# Altium footprint library smartcar_lib.PcbLib: 126 footprints (part 4 of 8)
Each footprint in its own frame and in the unit in brackets; x right, y up, seen from the top. Pads: shape width x height; smd on the part's side, far side on the other; paste and mask are expansions set on the pad; w line width, h text height; cw(c..) or ccw(c..) is an arc to the next point about the centre after c.
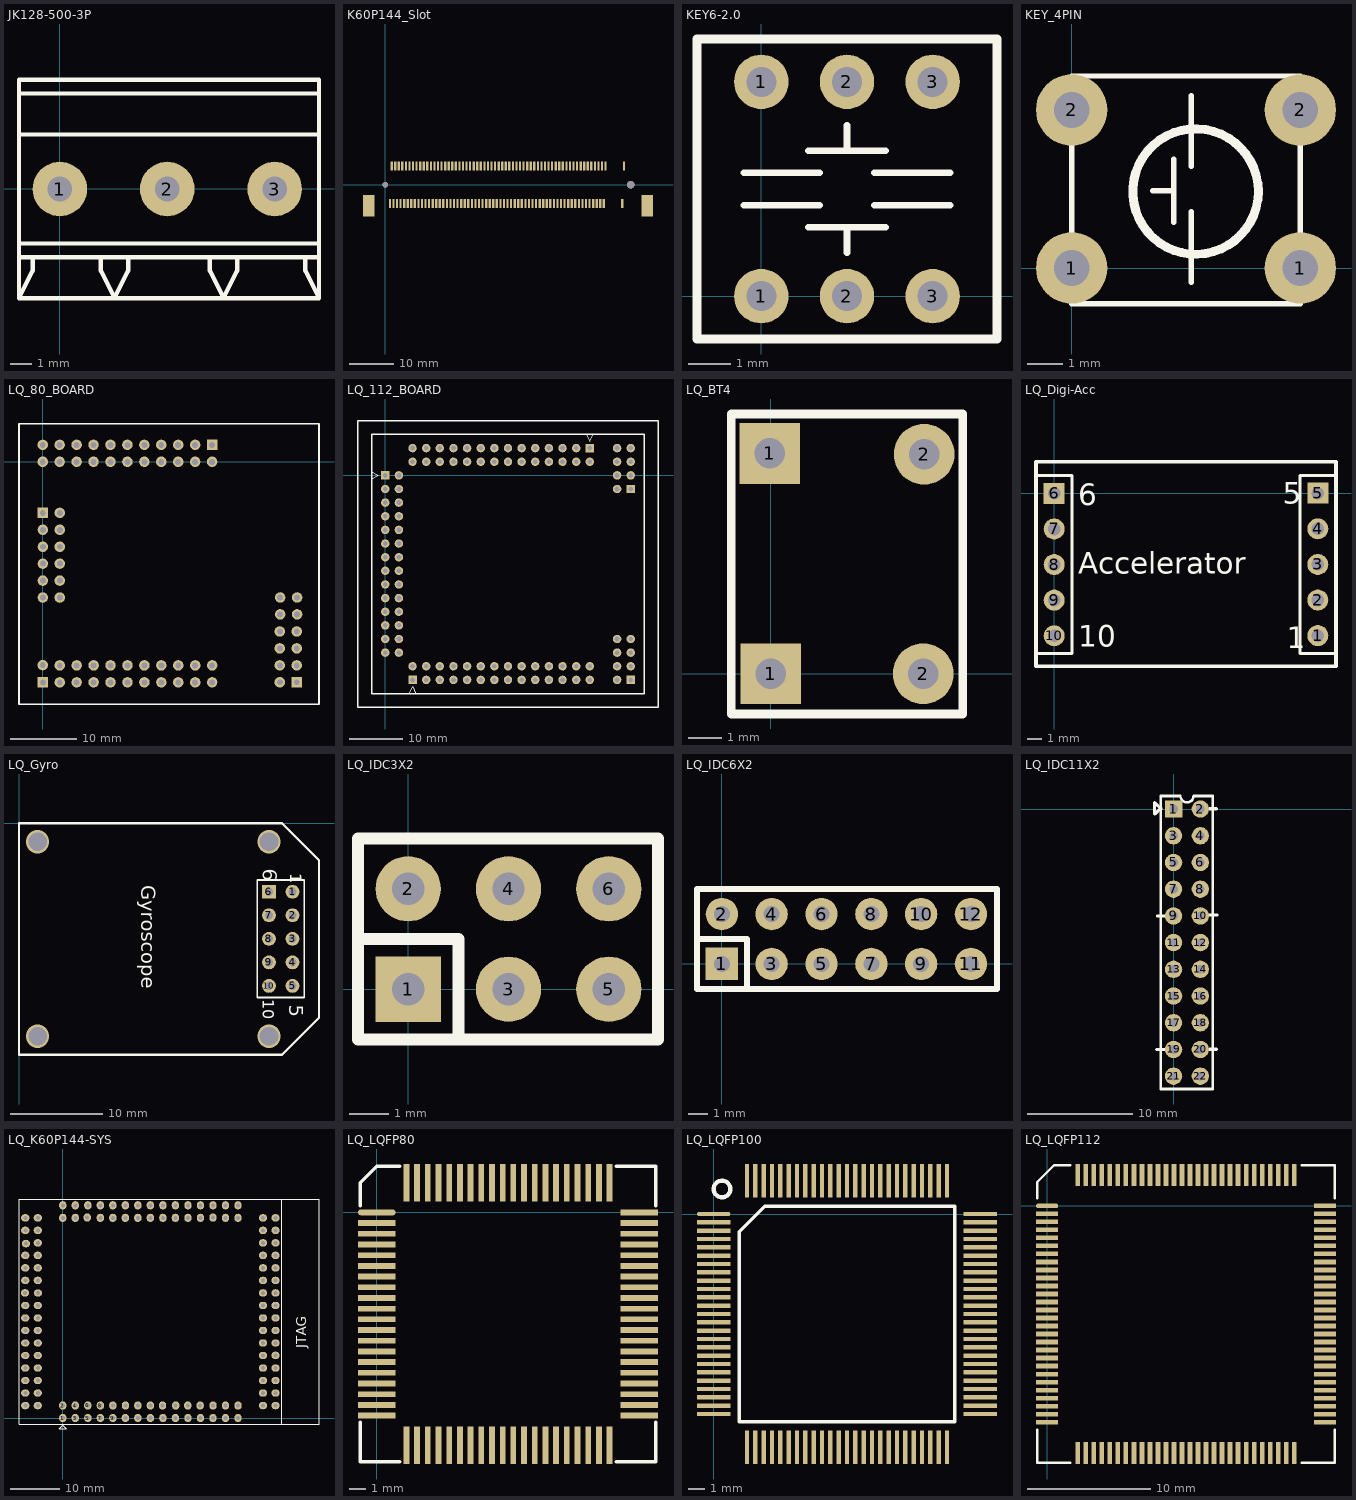
[diagram p3: the footprints below, top view; thin cyan lines are the x and y axes]

## JK128-500-3P [mil]
pads (3):
  round 100 hole 45: 1(0,-0.02) 2(196.85,-0.02) 3(393.7,-0.02)
Top Overlay:
  lines w8: -75,-125.02 225,-125.02 275,-125.02 275,-150.02 300,-200.02 325,-150.02 325,-125.02 ; -75,99.98 225,99.98 275,99.98 ; -75,174.98 225,174.98 275,174.98 ; -50,-125.02 -50,-150.02 -75,-200.02 ; 75,-125.02 75,-150.02 100,-200.02 125,-150.02 125,-125.02 425,-125.02 475,-125.02 ; 125,-200.02 425,-200.02 475,-200.02 ; 125,-100.02 425,-100.02 475,-100.02 ; 125,99.98 425,99.98 475,99.98 ; 125,174.98 425,174.98 475,174.98 ; 125,199.98 425,199.98 475,199.98 475,149.98 475,-150.02 475,-200.02 ; 275,-200.02 225,-200.02 -75,-200.02 ; 275,-100.02 225,-100.02 -75,-100.02 ; 275,199.98 225,199.98 -75,199.98 -75,-100.02 ; 450,-125.02 450,-150.02 475,-200.02 ; -75,-200.02 -75,-100.02

## K60P144_Slot [mm]
pads (126):
  rect 0.5x2 smd: 1(53.55,4.2) 2(53.15,-4.2) 3(49.4,4.2) 4(49,-4.2) 5(48.6,4.2) 6(48.2,-4.2) 7(47.8,4.2) 8(47.4,-4.2) 9(47,4.2) 10(46.6,-4.2) 11(46.2,4.2) 12(45.8,-4.2) 13(45.4,4.2) 14(45,-4.2) 15(44.6,4.2) 16(44.2,-4.2) 17(43.8,4.2) 18(43.4,-4.2) 19(43,4.2) 20(42.6,-4.2) 21(42.2,4.2) 22(41.8,-4.2) 23(41.4,4.2) 24(41,-4.2) 25(40.6,4.2) 26(40.2,-4.2) 27(39.8,4.2) 28(39.4,-4.2) 29(39,4.2) 30(38.6,-4.2) 31(38.2,4.2) 32(37.8,-4.2) 33(37.4,4.2) 34(37,-4.2) 35(36.6,4.2) 36(36.2,-4.2) 37(35.8,4.2) 38(35.4,-4.2) 39(35,4.2) 40(34.6,-4.2) 41(34.2,4.2) 42(33.8,-4.2) 43(33.4,4.2) 44(33,-4.2) 45(32.6,4.2) 46(32.2,-4.2) 47(31.8,4.2) 48(31.4,-4.2) 49(31,4.2) 50(30.6,-4.2) 51(30.2,4.2) 52(29.8,-4.2) 53(29.4,4.2) 54(29,-4.2) 55(28.6,4.2) 56(28.2,-4.2) 57(27.8,4.2) 58(27.4,-4.2) 59(27,4.2) 60(26.6,-4.2) 61(26.2,4.2) 62(25.8,-4.2) 63(25.4,4.2) 64(25,-4.2) 65(24.6,4.2) 66(24.2,-4.2) 67(23.8,4.2) 68(23.4,-4.2) 69(23,4.2) 70(22.6,-4.2) 71(22.2,4.2) 72(21.8,-4.2) 73(21.4,4.2) 74(21,-4.2) 75(20.6,4.2) 76(20.2,-4.2) 77(19.8,4.2) 78(19.4,-4.2) 79(19,4.2) 80(18.6,-4.2) 81(18.2,4.2) 82(17.8,-4.2) 83(17.4,4.2) 84(17,-4.2) 85(16.6,4.2) 86(16.2,-4.2) 87(15.8,4.2) 88(15.4,-4.2) 89(15,4.2) 90(14.6,-4.2) 91(14.2,4.2) 92(13.8,-4.2) 93(13.4,4.2) 94(13,-4.2) 95(12.6,4.2) 96(12.2,-4.2) 97(11.8,4.2) 98(11.4,-4.2) 99(11,4.2) 100(10.6,-4.2) 101(10.2,4.2) 102(9.8,-4.2) 103(9.4,4.2) 104(9,-4.2) 105(8.6,4.2) 106(8.2,-4.2) 107(7.8,4.2) 108(7.4,-4.2) 109(7,4.2) 110(6.6,-4.2) 111(6.2,4.2) 112(5.8,-4.2) 113(5.4,4.2) 114(5,-4.2) 115(4.6,4.2) 116(4.2,-4.2) 117(3.8,4.2) 118(3.4,-4.2) 119(3,4.2) 120(2.6,-4.2) 121(2.2,4.2) 122(1.8,-4.2) 123(1.4,4.2) 124(1,-4.2)
  rect 2.5x4.8 smd: ""(-3.75,-4.75) ""(58.75,-4.75)
via 0,0 diameter 1.2 hole 1.2
via 55,0 diameter 1.7 hole 1.7

## KEY6-2.0 [mm] "方形,7x7mm,6pin/2.0mm间距"
pads (6):
  round 1.27 hole 0.7: 1(0,0) 1(0,5) 2(2,0) 2(2,5) 3(4,0) 3(4,5)
Top Overlay:
  lines w0.152: -0.413,2.119 1.365,2.119 ; -0.413,2.881 1.365,2.881 ; 1.1,1.611 2.9,1.611 ; 1.1,3.389 2.9,3.389 ; 2,1.011 2,1.611 ; 2,3.389 2,3.989 ; 2.635,2.119 4.413,2.119 ; 2.635,2.881 4.413,2.881
  lines w0.203: -1.5,-1 -1.5,6 5.5,6 5.5,-1 -1.5,-1

## KEY_4PIN [mil]
pads (4):
  round 80 hole 40: 1(0,0) 1(256,0) 2(0,177) 2(256,177)
Top Overlay:
  circle w10: c138.74,85.67 r70.27
  lines w6: 90.55,86.61 114.17,86.61 ; 114.17,51.18 114.17,122.05 ; 133.86,-15.75 133.86,62.99 ; 133.86,114.17 133.86,192.91 ; 0,-40 256,-40 256,215 0,215 0,-40

## LQ_80_BOARD [mil]
pads (68):
  rect 62x62 hole 35: 101(0.39,-1301.57) 201(0,-300.39) 301(1000,100.79) 401(1500,-1301.18)
  round 62 hole 35: 102(0,-1200) 103(100.39,-1301.57) 104(100.39,-1201.57) 105(200.39,-1301.57) 106(200.39,-1201.57) 107(300.39,-1301.57) 108(300.39,-1201.57) 109(400.39,-1301.57) 110(400.39,-1201.57) 111(500.39,-1301.57) 112(500.39,-1201.57) 113(600.39,-1301.57) 114(600.39,-1201.57) 115(700.39,-1301.57) 116(700.39,-1201.57) 117(800.39,-1301.57) 118(800.39,-1201.57) 119(900.39,-1301.57) 120(900.39,-1201.57) 121(1000.39,-1301.57) 122(1000.39,-1201.57) 202(100.79,-300.79) 203(0.79,-400.79) 204(100.79,-400.79) 205(0.79,-500.79) 206(100.79,-500.79) 207(0.79,-600.79) 208(100.79,-600.79) 209(0.79,-700.79) 210(100.79,-700.79) 211(0.79,-800.79) 212(100.79,-800.79) 302(1000,0.79) 303(900,100.79) 304(900,0.79) 305(800,100.79) 306(800,0.79) 307(700,100.79) 308(700,0.79) 309(600,100.79) 310(600,0.79) 311(500,100.79) 312(500,0.79) 313(400,100.79) 314(400,0.79) 315(300,100.79) 316(300,0.79) 317(200,100.79) 318(200,0.79) 319(100,100.79) 320(100,0.79) 321(0,100.79) 322(0,0.79) 402(1400,-1301.18) 403(1500,-1201.18) 404(1400,-1201.18) 405(1500,-1101.18) 406(1400,-1101.18) 407(1500,-1001.18) 408(1400,-1001.18) 409(1501.97,-900.39) 410(1401.97,-900.39) 411(1501.97,-800.39) 412(1401.97,-800.39)
Top Overlay:
  lines w10: -140.16,-1430.31 -140.16,224.8 1631.5,224.8 1631.5,-1430.31 -140.16,-1430.31

## LQ_112_BOARD [mil]
pads (100):
  rect 62x62 hole 35: 101(200,-1500) 201(0,0) 301(1500,200) 401(1800,-1500) 501(1800,-100)
  round 62 hole 35: 102(200,-1400) 103(300,-1500) 104(300,-1400) 105(400,-1500) 106(400,-1400) 107(500,-1500) 108(500,-1400) 109(600,-1500) 110(600,-1400) 111(700,-1500) 112(700,-1400) 113(800,-1500) 114(800,-1400) 115(900,-1500) 116(900,-1400) 117(1000,-1500) 118(1000,-1400) 119(1100,-1500) 120(1100,-1400) 121(1200,-1500) 122(1200,-1400) 123(1300,-1500) 124(1300,-1400) 125(1400,-1500) 126(1400,-1400) 127(1500,-1500) 128(1500,-1400) 202(100,0) 203(0,-100) 204(100,-100) 205(0,-200) 206(100,-200) 207(0,-300) 208(100,-300) 209(0,-400) 210(100,-400) 211(0,-500) 212(100,-500) 213(0,-600) 214(100,-600) 215(0,-700) 216(100,-700) 217(0,-800) 218(100,-800) 219(0,-900) 220(100,-900) 221(0,-1000) 222(100,-1000) 223(0,-1100) 224(100,-1100) 225(0,-1200) 226(100,-1200) 227(0,-1300) 228(100,-1300) 302(1500,100) 303(1400,200) 304(1400,100) 305(1300,200) 306(1300,100) 307(1200,200) 308(1200,100) 309(1100,200) 310(1100,100) 311(1000,200) 312(1000,100) 313(900,200) 314(900,100) 315(800,200) 316(800,100) 317(700,200) 318(700,100) 319(600,200) 320(600,100) 321(500,200) 322(500,100) 323(400,200) 324(400,100) 325(300,200) 326(300,100) 327(200,200) 328(200,100) 402(1700,-1500) 403(1800,-1400) 404(1700,-1400) 405(1800,-1300) 406(1700,-1300) 407(1800,-1200) 408(1700,-1200) 502(1700,-100) 503(1800,0) 504(1700,0) 505(1800,100) 506(1700,100) 507(1800,200) 508(1700,200)
Top Overlay:
  lines w8: -100,-25 -50,0 -100,25 ; 175,-1600 200,-1550 225,-1600 ; 1475,300 1500,250 1525,300
  lines w10: -200,-1700 2000,-1700 2000,400 -200,400 -200,360 -200,-1700 ; -100,-1600 1900,-1600 1900,300 -100,300 -100,-1600

## LQ_BT4 [mm]
pads (4):
  rect 1.8x1.8 hole 0.9: 1(-0.025,6.528) 1(0,0)
  round 1.8 hole 0.9: 2(4.521,0) 2(4.547,6.502)
Top Overlay:
  lines w0.254: -1.168,-1.194 -1.168,7.696 5.69,7.696 5.69,-1.194 -1.168,-1.194

## LQ_Digi-Acc [mm] "LQ_Digi-Acc"
pads (10):
  round 1.5 hole 0.9: 1(18.8,-10.15) 2(18.8,-7.61) 3(18.8,-5.07) 4(18.8,-2.53) 7(0,-2.54) 8(0,-5.08) 9(0,-7.62) 10(0,-10.16)
  rect 1.5x1.5 hole 0.9: 5(18.8,0.01) 6(0,0)
Top Overlay:
  lines w0.2: -1.27,-11.43 -1.27,1.27 1.27,1.27 1.27,-11.43 -1.27,-11.43 ; 17.53,-11.42 17.53,1.28 20.07,1.28 20.07,-11.42 17.53,-11.42
  lines w0.254: -1.3,-12.34 -1.3,2.26 20.1,2.26 20.1,-12.34 -1.3,-12.34
  text "10" at 1.7,-10.94 h1.52
  text "6" at 1.7,-0.84 h1.52
  text "5" at 16.3,-0.74 h1.52
  text "1" at 16.6,-11.04 h1.52
  text "Accelerator" at 1.7,-5.74 h1.52

## LQ_Gyro [mm] "LQ_Gyro"
height 20
pads (10):
  round 1.5 hole 0.9: 1(29.54,-7.4) 2(29.54,-9.94) 3(29.54,-12.48) 4(29.54,-15.02) 5(29.54,-17.56) 7(27,-9.94) 8(27,-12.48) 9(27,-15.02) 10(27,-17.56)
  rect 1.5x1.5 hole 0.9: 6(27,-7.4)
via 2,-23 diameter 2.5 hole 2
via 27,-2 diameter 2.5 hole 2
via 27,-23 diameter 2.5 hole 2
via 2,-2 diameter 2.5 hole 2
Top Layer:
  lines w0.254: 28.4,-25 28.4,-25 ; 28.4,0 28.4,0
Top Overlay:
  lines w0.2: 25.73,-18.83 30.81,-18.83 30.81,-6.13 25.73,-6.13 25.73,-18.83
  lines w0.254: 0,-25 28.4,-25 32.4,-21 32.4,-4 28.4,0 0,0 0,-25
  text "1" at 29.3,-5.4 h1.27
  text "10" at 26.3,-19 h1.27
  text "5" at 29.2,-19.6 h1.52
  text "6" at 26.3,-4.9 h1.52
  text "Gyroscope" at 13.2,-6.7 h1.52

## LQ_IDC3X2 [mm]
pads (6):
  rect 1.65x1.65 hole 0.82: 1(0,0)
  round 1.65 hole 0.82: 2(0,2.54) 3(2.54,0) 4(2.54,2.54) 5(5.08,0) 6(5.08,2.54)
Top Overlay:
  lines w0.305: -1.27,1.27 1.27,1.27 1.27,-1.27 ; -1.27,-1.27 6.325,-1.27 6.325,3.81 -1.27,3.81 -1.27,-1.27

## LQ_IDC6X2 [mm]
pads (12):
  rect 1.65x1.65 hole 0.82: 1(0,0)
  round 1.65 hole 0.82: 2(0,2.54) 3(2.54,0) 4(2.54,2.54) 5(5.08,0) 6(5.08,2.54) 7(7.62,0) 8(7.62,2.54) 9(10.16,0) 10(10.16,2.54) 11(12.7,0) 12(12.7,2.54)
Top Overlay:
  lines w0.305: -1.27,1.27 1.27,1.27 1.27,-1.27 ; -1.27,-1.27 14.03,-1.27 14.03,3.81 -1.27,3.81 -1.27,-1.27

## LQ_IDC11X2 [mm]
pads (22):
  rect 1.65x1.65 hole 0.82: 1(0,0)
  round 1.65 hole 0.82: 2(2.54,0) 3(0,-2.54) 4(2.54,-2.54) 5(0,-5.08) 6(2.54,-5.08) 7(0,-7.62) 8(2.54,-7.62) 9(0,-10.16) 10(2.54,-10.16) 11(0,-12.7) 12(2.54,-12.7) 13(0,-15.24) 14(2.54,-15.24) 15(0,-17.78) 16(2.54,-17.78) 17(0,-20.32) 18(2.54,-20.32) 19(0,-22.86) 20(2.54,-22.86) 21(0,-25.4) 22(2.54,-25.4)
Top Overlay:
  lines w0.254: -1.56,-10.17 -0.8,-10.17 ; -1.21,-26.62 -1.21,1.27 ; -1.2,-26.62 3.728,-26.62 ; -1.194,1.245 0.559,1.245 ; 0.635,1.27 ccw(c1.27,1.27) 1.905,1.27 ; 1.956,1.245 3.734,1.245 ; 3.27,-10.07 4.16,-10.07 ; 3.718,-26.62 3.718,1.27
  lines w0.3: -1.6,-22.86 -0.711,-22.86 ; -1.219,0.102 -1.803,-0.483 -1.803,0.61 -1.194,0 -1.194,-0.025 ; 3.404,-22.835 4.064,-22.835 ; 3.404,0.025 4.089,0.025

## LQ_K60P144-SYS [mil]
pads (124):
  oval 59x66 hole 32: 1(0,0) 2(0,100) 3(100,0) 4(100,100) 5(200,0) 6(199.61,100.79) 7(300,0) 8(300,100) 9(400,0) 10(400,100) 11(500,0) 12(500.79,100) 13(600,0) 14(600,100) 15(700,0) 16(700,100) 17(800,0) 18(796.85,100) 19(900,0) 20(902.36,100) 21(1000,0) 22(998.82,100) 23(1100,0) 24(1097.64,100) 25(1200,0) 26(1200.39,100) 27(1300,0) 28(1300,100) 29(1400,0) 30(1400.39,100) 63(1400,1600) 64(1400,1700) 65(1300,1600) 66(1300,1700) 67(1200,1601.97) 68(1200,1700) 69(1100,1600) 70(1100,1700) 71(1000,1600) 72(1000,1700) 73(900,1600) 74(900,1700) 75(800,1600) 76(800,1700) 77(700,1600) 78(700,1700) 79(600,1600) 80(600,1700) 81(500,1600) 82(500,1700) 83(400,1600) 84(400,1700) 85(300,1600) 86(300,1700) 87(194.88,1602.36) 88(200,1700) 89(100,1600) 90(100,1700) 91(0,1600) 92(0,1700)
  oval 66x59 hole 32: 31(1700,100) 32(1600,100) 33(1700,200) 34(1600,200) 35(1700,300) 36(1600,300) 37(1700,400) 38(1600,400) 39(1700,500.79) 40(1600,500) 41(1700,600) 42(1600,600.39) 43(1700,700) 44(1600,700) 45(1700,800) 46(1600,800) 47(1700,900) 48(1600,900) 49(1700,1000) 50(1600,1000) 51(1700,1100) 52(1600,1100) 53(1700,1200) 54(1600,1200) 55(1700,1300) 56(1600,1300) 57(1700,1400) 58(1600,1400) 59(1700,1500) 60(1600,1500) 61(1700,1600) 62(1600,1600) 93(-200,1600) 94(-300,1600) 95(-200,1500) 96(-300,1500) 97(-200,1400) 98(-294.88,1394.09) 99(-200,1300) 100(-300,1300) 101(-200,1200) 102(-300,1200) 103(-200,1100) 104(-300,1100) 105(-198.82,999.61) 106(-301.97,1000.39) 107(-200,900) 108(-300,900) 109(-200,800) 110(-300,800) 111(-200,700) 112(-300,700) 113(-200,600) 114(-300,600) 115(-200,500) 116(-300,500) 117(-200,400) 118(-300,400) 119(-200,300) 120(-300,300) 121(-200,200) 122(-300,200) 123(-200,100) 124(-300,100)
Top Overlay:
  lines w7.87: -1.18,-59.06 25.98,-86.61 -28.35,-86.61 -0.79,-59.06 ; 1750,-50 1750,1750 ; -350,-50 2047.24,-50 2047.24,1750 -350,1750 -350,-50
  text "JTAG" at 1945.67,559.06 h78.74

## LQ_LQFP80 [mm]
pads (80):
  oval 2.286x0.35 smd: 1(0,0)
  rect 2.286x0.35 smd: 2(0,-0.65) 3(0,-1.3) 4(0,-1.95) 5(0,-2.6) 6(0,-3.25) 7(0,-3.9) 8(0,-4.55) 9(0,-5.2) 10(0,-5.85) 11(0,-6.5) 12(0,-7.15) 13(0,-7.8) 14(0,-8.45) 15(0,-9.1) 16(0,-9.75) 17(0,-10.4) 18(0,-11.05) 19(0,-11.7) 20(0,-12.35) 41(15.95,-12.35) 42(15.95,-11.7) 43(15.95,-11.05) 44(15.95,-10.4) 45(15.95,-9.75) 46(15.95,-9.1) 47(15.95,-8.45) 48(15.95,-7.8) 49(15.95,-7.15) 50(15.95,-6.5) 51(15.95,-5.85) 52(15.95,-5.2) 53(15.95,-4.55) 54(15.95,-3.9) 55(15.95,-3.25) 56(15.95,-2.6) 57(15.95,-1.95) 58(15.95,-1.3) 59(15.95,-0.65) 60(15.95,0)
  rect 0.35x2.286 smd: 21(1.8,-14.15) 22(2.45,-14.15) 23(3.1,-14.15) 24(3.75,-14.15) 25(4.4,-14.15) 26(5.05,-14.15) 27(5.7,-14.15) 28(6.35,-14.15) 29(7,-14.15) 30(7.65,-14.15) 31(8.3,-14.15) 32(8.95,-14.15) 33(9.6,-14.15) 34(10.25,-14.15) 35(10.9,-14.15) 36(11.55,-14.15) 37(12.2,-14.15) 38(12.85,-14.15) 39(13.5,-14.15) 40(14.15,-14.15) 61(14.15,1.8) 62(13.5,1.8) 63(12.85,1.8) 64(12.2,1.8) 65(11.55,1.8) 66(10.9,1.8) 67(10.25,1.8) 68(9.6,1.8) 69(8.95,1.8) 70(8.3,1.8) 71(7.65,1.8) 72(7,1.8) 73(6.35,1.8) 74(5.7,1.8) 75(5.05,1.8) 76(4.4,1.8) 77(3.75,1.8) 78(3.1,1.8) 79(2.45,1.8) 80(1.8,1.8)
Top Overlay:
  lines w0.2: -1,-12.75 -1,-15.15 1.4,-15.15 ; -1,0.4 -1,1.8 0,2.8 1.4,2.8 ; 14.55,-15.15 16.95,-15.15 16.95,-12.75 ; 14.55,2.8 16.95,2.8 16.95,0.4

## LQ_LQFP100 [mm]
pads (100):
  oval 2x0.254 smd: 1(0,0)
  rect 2x0.254 smd: 2(0,-0.5) 3(0,-1) 4(0,-1.5) 5(0,-2) 6(0,-2.5) 7(0,-3) 8(0,-3.5) 9(0,-4) 10(0,-4.5) 11(0,-5) 12(0,-5.5) 13(0,-6) 14(0,-6.5) 15(0,-7) 16(0,-7.5) 17(0,-8) 18(0,-8.5) 19(0,-9) 20(0,-9.5) 21(0,-10) 22(0,-10.5) 23(0,-11) 24(0,-11.5) 25(0,-12) 51(16,-12) 52(16,-11.5) 53(16,-11) 54(16,-10.5) 55(16,-10) 56(16,-9.5) 57(16,-9) 58(16,-8.5) 59(16,-8) 60(16,-7.5) 61(16,-7) 62(16,-6.5) 63(16,-6) 64(16,-5.5) 65(16,-5) 66(16,-4.5) 67(16,-4) 68(16,-3.5) 69(16,-3) 70(16,-2.5) 71(16,-2) 72(16,-1.5) 73(16,-1) 74(16,-0.5) 75(16,0)
  rect 0.254x2 smd: 26(2,-14) 27(2.5,-14) 28(3,-14) 29(3.5,-14) 30(4,-14) 31(4.5,-14) 32(5,-14) 33(5.5,-14) 34(6,-14) 35(6.5,-14) 36(7,-14) 37(7.5,-14) 38(8,-14) 39(8.5,-14) 40(9,-14) 41(9.5,-14) 42(10,-14) 43(10.5,-14) 44(11,-14) 45(11.5,-14) 46(12,-14) 47(12.5,-14) 48(13,-14) 49(13.5,-14) 50(14,-14) 76(14,2) 77(13.5,2) 78(13,2) 79(12.5,2) 80(12,2) 81(11.5,2) 82(11,2) 83(10.5,2) 84(10,2) 85(9.5,2) 86(9,2) 87(8.5,2) 88(8,2) 89(7.5,2) 90(7,2) 91(6.5,2) 92(6,2) 93(5.5,2) 94(5,2) 95(4.5,2) 96(4,2) 97(3.5,2) 98(3,2) 99(2.5,2) 100(2,2)
Top Overlay:
  lines w0.2: 1.535,-12.465 14.465,-12.465 14.465,0.465 3.07,0.465 1.535,-1.07 1.535,-12.465
  lines w0.254: 0.92,1.772 ccw(c0.5,1.5) 0.927,1.76

## LQ_LQFP112 [mm]
pads (112):
  oval 1.8x0.375 smd: 1(0,0)
  rect 1.8x0.375 smd: 2(0,-0.65) 3(0,-1.3) 4(0,-1.95) 5(0,-2.6) 6(0,-3.25) 7(0,-3.9) 8(0,-4.55) 9(0,-5.2) 10(0,-5.85) 11(0,-6.5) 12(0,-7.15) 13(0,-7.8) 14(0,-8.45) 15(0,-9.1) 16(0,-9.75) 17(0,-10.4) 18(0,-11.05) 19(0,-11.7) 20(0,-12.35) 21(0,-13) 22(0,-13.65) 23(0,-14.3) 24(0,-14.95) 25(0,-15.6) 26(0,-16.25) 27(0,-16.9) 28(0,-17.55) 57(22.55,-17.55) 58(22.55,-16.9) 59(22.55,-16.25) 60(22.55,-15.6) 61(22.55,-14.95) 62(22.55,-14.3) 63(22.55,-13.65) 64(22.55,-13) 65(22.55,-12.35) 66(22.55,-11.7) 67(22.55,-11.05) 68(22.55,-10.4) 69(22.55,-9.75) 70(22.55,-9.1) 71(22.55,-8.45) 72(22.55,-7.8) 73(22.55,-7.15) 74(22.55,-6.5) 75(22.55,-5.85) 76(22.55,-5.2) 77(22.55,-4.55) 78(22.55,-3.9) 79(22.55,-3.25) 80(22.55,-2.6) 81(22.55,-1.95) 82(22.55,-1.3) 83(22.55,-0.65) 84(22.55,0)
  rect 0.375x1.8 smd: 29(2.5,-20.05) 30(3.15,-20.05) 31(3.8,-20.05) 32(4.45,-20.05) 33(5.1,-20.05) 34(5.75,-20.05) 35(6.4,-20.05) 36(7.05,-20.05) 37(7.7,-20.05) 38(8.35,-20.05) 39(9,-20.05) 40(9.65,-20.05) 41(10.3,-20.05) 42(10.95,-20.05) 43(11.6,-20.05) 44(12.25,-20.05) 45(12.9,-20.05) 46(13.55,-20.05) 47(14.2,-20.05) 48(14.85,-20.05) 49(15.5,-20.05) 50(16.15,-20.05) 51(16.8,-20.05) 52(17.45,-20.05) 53(18.1,-20.05) 54(18.75,-20.05) 55(19.4,-20.05) 56(20.05,-20.05) 85(20.05,2.5) 86(19.4,2.5) 87(18.75,2.5) 88(18.1,2.5) 89(17.45,2.5) 90(16.8,2.5) 91(16.15,2.5) 92(15.5,2.5) 93(14.85,2.5) 94(14.2,2.5) 95(13.55,2.5) 96(12.9,2.5) 97(12.25,2.5) 98(11.6,2.5) 99(10.95,2.5) 100(10.3,2.5) 101(9.65,2.5) 102(9,2.5) 103(8.35,2.5) 104(7.7,2.5) 105(7.05,2.5) 106(6.4,2.5) 107(5.75,2.5) 108(5.1,2.5) 109(4.45,2.5) 110(3.8,2.5) 111(3.15,2.5) 112(2.5,2.5)
Top Overlay:
  lines w0.2: -0.8,-18.15 -0.8,-20.85 1.9,-20.85 ; -0.8,0.6 -0.8,1.93 0.56,3.3 1.9,3.3 ; 20.65,-20.85 23.35,-20.85 23.35,-18.15 ; 20.65,3.3 23.35,3.3 23.35,0.6